# Altium schematic symbol library RT6150.SchLib: 2 symbols
Pins are listed as number, name and electrical type; pins without a type are passive.

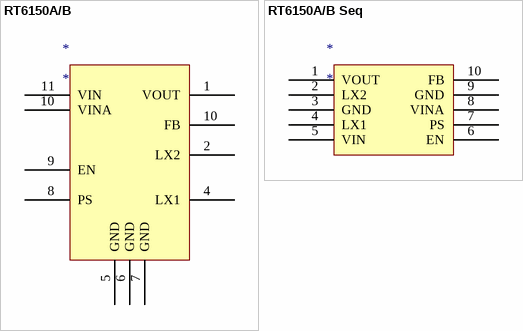
[diagram p0: symbols RT6150A/B to RT6150A/B Seq]

## RT6150A/B
designator *
pins: 1 VOUT, 2 LX2, 4 LX1, 5 GND, 6 GND, 7 GND, 8 PS, 9 EN, 10 FB, 10 VINA, 11 VIN

## RT6150A/B Seq
designator *
pins: 1 VOUT, 2 LX2, 3 GND, 4 LX1, 5 VIN, 6 EN, 7 PS, 8 VINA, 9 GND, 10 FB